# Altium footprint library Antenna2.4G.PcbLib: 7 footprints
Each footprint in its own frame and in the unit in brackets; x right, y up, seen from the top. Pads: shape width x height; smd on the part's side, far side on the other; paste and mask are expansions set on the pad; w line width, h text height; cw(c..) or ccw(c..) is an arc to the next point about the centre after c.
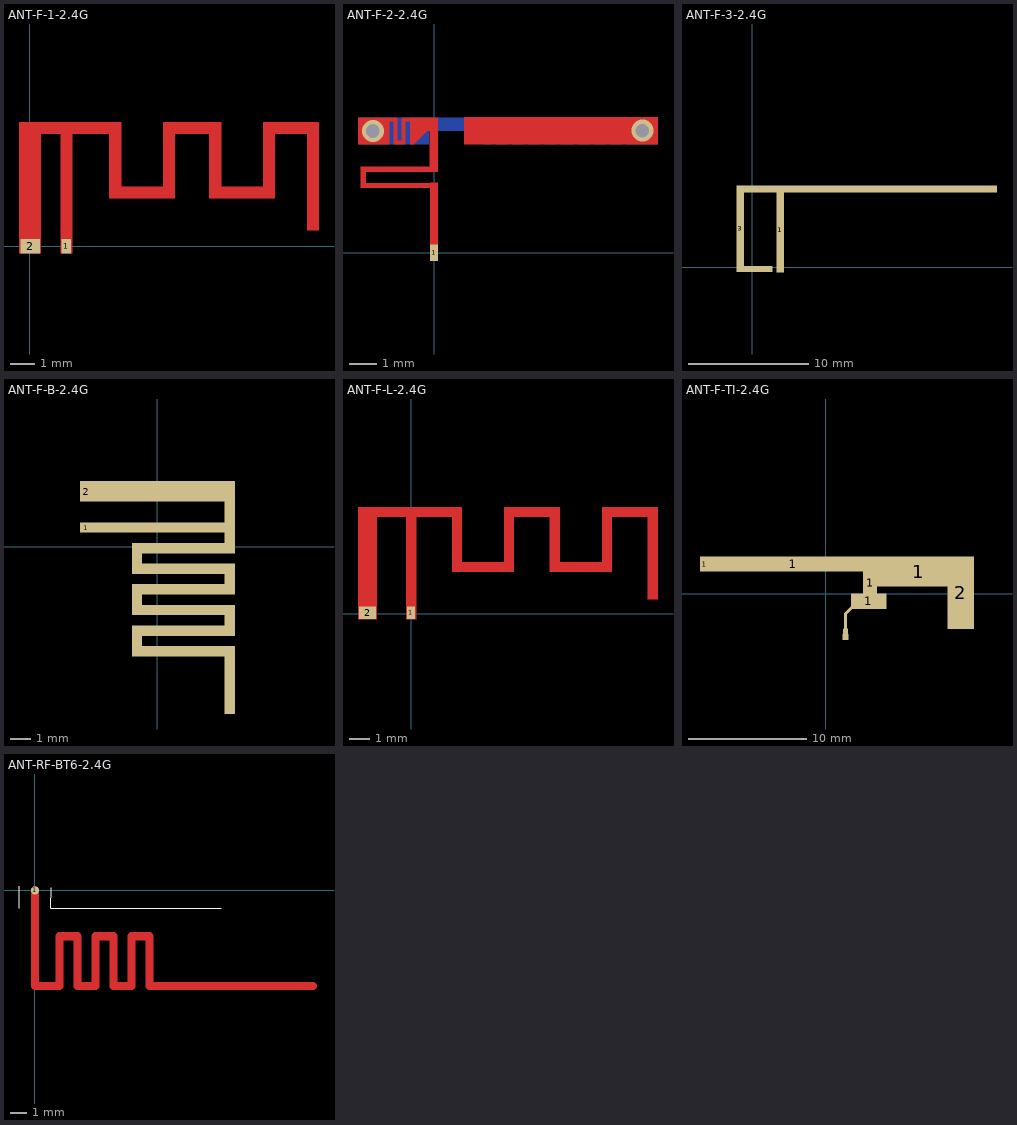
[diagram p0: the footprints below, top view; thin cyan lines are the x and y axes]

## ANT-F-1-2.4G [mm]
pads (2):
  rect 0.4x0.6 smd: 1(1.5,0)
  rect 0.8x0.6 smd: 2(0.017,0)
Top Layer:
  rectangle: 1.26,-0.305 1.76,4.826
  rectangle: -0.44,-0.305 0.46,4.801
  rectangle: -0.44,4.595 3.76,5.095
  rectangle: 3.26,1.955 3.76,4.775
  rectangle: 3.35,1.955 5.89,2.45
  rectangle: 5.46,1.955 5.96,4.775
  rectangle: 5.46,4.595 7.86,5.095
  rectangle: 7.36,1.955 7.86,4.775
  rectangle: 7.375,1.955 9.864,2.455
  rectangle: 9.56,1.955 10.06,4.775
  rectangle: 9.56,4.595 11.86,5.095
  rectangle: 11.36,0.655 11.86,4.775

## ANT-F-2-2.4G [mm]
pads (1):
  rect 0.3x0.6 smd: 1(0,0)
via -2.243,4.466 diameter 0.8 hole 0.5
via 7.642,4.478 diameter 0.8 hole 0.5
Top Layer:
  region: -0.745,3.969 -0.037,4.676 -0.153,4.792 -0.861,4.084
  rectangle: -0.875,4.127 -0.702,4.498
  rectangle: -0.78,3.969 -0.745,4.139
  rectangle: -0.824,4.241 -0.476,4.378
  rectangle: -0.15,-0.3 0.15,2.568
  rectangle: -0.78,4.467 0.141,4.967
  rectangle: -0.88,3.969 -0.781,4.968
  rectangle: -2.788,3.968 -1.638,4.966
  rectangle: -1.488,3.968 -1.338,4.966
  rectangle: -1.188,3.968 -1.038,4.966
  rectangle: -1.409,3.968 -1.038,4.117
  rectangle: -1.666,4.816 -1.478,4.966
  rectangle: -1.06,4.818 -0.857,4.968
  rectangle: -0.159,2.969 0.14,4.968
  rectangle: -2.689,2.967 -0.109,3.168
  rectangle: -2.488,2.368 -0.149,2.566
  rectangle: -0.832,4.473 -0.235,4.614
  rectangle: -0.818,4.371 -0.349,4.574
  rectangle: -0.814,4.127 -0.593,4.16
  rectangle: -0.819,4.071 -0.707,4.116
  rectangle: -2.69,2.368 -2.489,3.168
  rectangle: 1.103,3.968 8.213,4.976
Bottom Layer:
  rectangle: 1.838,3.967 2.012,4.05
  region: 1.93,4.059 1.108,4.881 1.017,4.789 1.838,3.968
  rectangle: 2.012,3.968 2.111,4.966
  rectangle: 1.877,4.033 2.055,4.636
  rectangle: 2.563,3.968 2.711,4.966
  rectangle: -2.788,3.968 -0.187,4.966
  rectangle: -0.299,4.468 2.111,4.966
  rectangle: 1.456,4.349 2.022,4.555
  rectangle: 1.583,4.214 2.058,4.443
  rectangle: 1.728,4.082 2.002,4.298
  rectangle: 2.261,3.968 2.411,4.966
  rectangle: 2.863,3.968 3.013,4.966
  rectangle: 3.163,3.968 3.313,4.966
  rectangle: 3.463,3.968 3.612,4.966
  rectangle: 3.762,3.968 3.912,4.966
  rectangle: 4.062,3.968 4.212,4.966
  rectangle: 4.362,3.968 4.512,4.966
  rectangle: 4.661,3.968 4.811,4.966
  rectangle: 4.961,3.968 5.111,4.966
  rectangle: 5.261,3.968 5.411,4.966
  rectangle: 5.563,3.968 5.71,4.966
  rectangle: 5.86,3.968 6.013,4.966
  rectangle: 6.163,3.968 6.312,4.966
  rectangle: 6.462,3.968 6.612,4.966
  rectangle: 6.762,3.968 6.912,4.966
  rectangle: 6.881,4.816 7.112,4.966
  rectangle: 6.249,4.816 6.612,4.966
  rectangle: 5.629,4.816 6.013,4.966
  rectangle: 5.05,4.816 5.411,4.966
  rectangle: 4.443,4.816 4.811,4.966
  rectangle: 3.8,4.816 4.212,4.966
  rectangle: 3.224,4.816 3.612,4.966
  rectangle: 2.627,4.816 3.013,4.966
  rectangle: 1.928,4.816 2.411,4.966
  rectangle: 2.261,3.968 2.634,4.118
  rectangle: 2.863,3.967 3.259,4.117
  rectangle: 3.513,3.968 3.912,4.117
  rectangle: 4.125,3.968 4.512,4.117
  rectangle: 4.661,3.967 5.032,4.117
  rectangle: 5.261,3.968 5.647,4.117
  rectangle: 5.86,3.968 6.228,4.117
  rectangle: 6.462,3.968 6.818,4.117
  rectangle: 7.062,3.968 8.212,4.966

## ANT-F-3-2.4G [mm]
pads (8):
  rect 0.65x7 smd: 1(2.336,3.071)
  rect 0.65x7 on Top Paste: 1(2.336,3.071)
  rect 3x0.5 smd: 2(0.177,-0.154)
  rect 3x0.5 on Top Paste: 2(0.177,-0.154)
  rect 0.64x7.2 smd: 3(-0.999,3.208)
  rect 0.64x7.2 on Top Paste: 3(-0.999,3.208)
  rect 21.7x0.6 smd: 4(9.526,6.508)
  rect 21.7x0.6 on Top Paste: 4(9.526,6.508)

## ANT-F-B-2.4G [mm]
pads (17):
  rect 0.5x0.4 smd: 1(-3.429,0.889)
  rect 0.6x0.9 smd: 2(-3.429,2.667)
  rect 0.5x1 smd: ""(-0.983,-4.575) ""(-0.983,-2.575) ""(-0.983,-0.575) ""(3.517,-3.575) ""(3.517,-1.575)
  rect 7x0.5 smd: ""(-0.233,0.925)
  rect 7.5x1 smd: ""(0.017,2.675)
  rect 5x0.5 smd: ""(1.267,-5.075) ""(1.267,-4.075) ""(1.267,-3.075) ""(1.267,-2.075) ""(1.267,-1.075) ""(1.267,-0.075)
  rect 0.5x2.8 smd: ""(3.517,-6.713)
  rect 0.5x3 smd: ""(3.517,1.175)

## ANT-F-L-2.4G [mm]
pads (2):
  rect 0.4x0.6 smd: 1(-0.025,0.051)
  rect 0.8x0.6 smd: 2(-2.108,0.051)
Top Layer:
  rectangle: 11.335,0.706 11.835,4.826
  rectangle: 9.135,4.646 11.835,5.146
  rectangle: 9.135,2.006 9.635,4.826
  rectangle: 6.909,2.006 9.398,2.506
  rectangle: 6.635,2.006 7.135,4.826
  rectangle: 4.435,4.646 7.135,5.146
  rectangle: 4.435,2.006 4.935,4.826
  rectangle: 2.184,2.006 4.724,2.506
  rectangle: 1.935,2.006 2.435,4.826
  rectangle: -2.565,4.646 2.435,5.146
  rectangle: -2.565,-0.254 -1.665,4.851
  rectangle: -0.265,-0.254 0.235,4.877

## ANT-F-TI-2.4G [mil]
pads (10):
  rect 31x50 smd paste-60: 1(-404,99)
  rect 560.9x50 smd paste-26: 1(-108.85,99.5)
  oval 16x35 smd paste-35: 1(66,-129.5)
  rect 20x20 smd paste-35: 1(66,-144.5)
  rect 10x50 smd paste-5 mask+4: 1(66,-89.5)
  rect 10x35 smd rot 135 paste-5 mask+4: 1(76.91,-55.66)
  rect 118.83x50.4 smd paste-26: 1(143.77,-24.7)
  rect 47.9x174.4 smd paste-26: 1(147.65,37.3)
  rect 370.8x100 smd paste-51: 1(309.1,74.5)
  rect 88.7x241 smd paste-64: 2(450.15,4)

## ANT-RF-BT6-2.4G [mil]
pads (1):
  round 20 smd: 1(0,0)
Top Layer:
  lines w19.68: 0,0 0,-230.46 59.05,-230.46 59.05,-110.38 102.36,-110.38 102.36,-230.46 145.67,-230.46 145.67,-110.38 188.98,-110.38 188.98,-230.46 232.28,-230.46 232.28,-110.38 275.59,-110.38 275.59,-230.46 669.29,-230.46
Top Overlay:
  lines w1: -38.42,-43.5 -38,10 ; 39,6 38.58,-43.5 255.12,-43.45 428.57,-43.45 ; 59.05,-43.5 275.59,-43.45 449.05,-43.45
Top Solder:
  rectangle: -16,-115 16,17
  rectangle: 279,-251 684,-218
  rectangle: -16,-251 292,-94